# Altium footprint library LED.PcbLib: 32 footprints (part 2 of 2)
Each footprint in its own frame and in the unit in brackets; x right, y up, seen from the top. Pads: shape width x height; smd on the part's side, far side on the other; paste and mask are expansions set on the pad; w line width, h text height; cw(c..) or ccw(c..) is an arc to the next point about the centre after c.
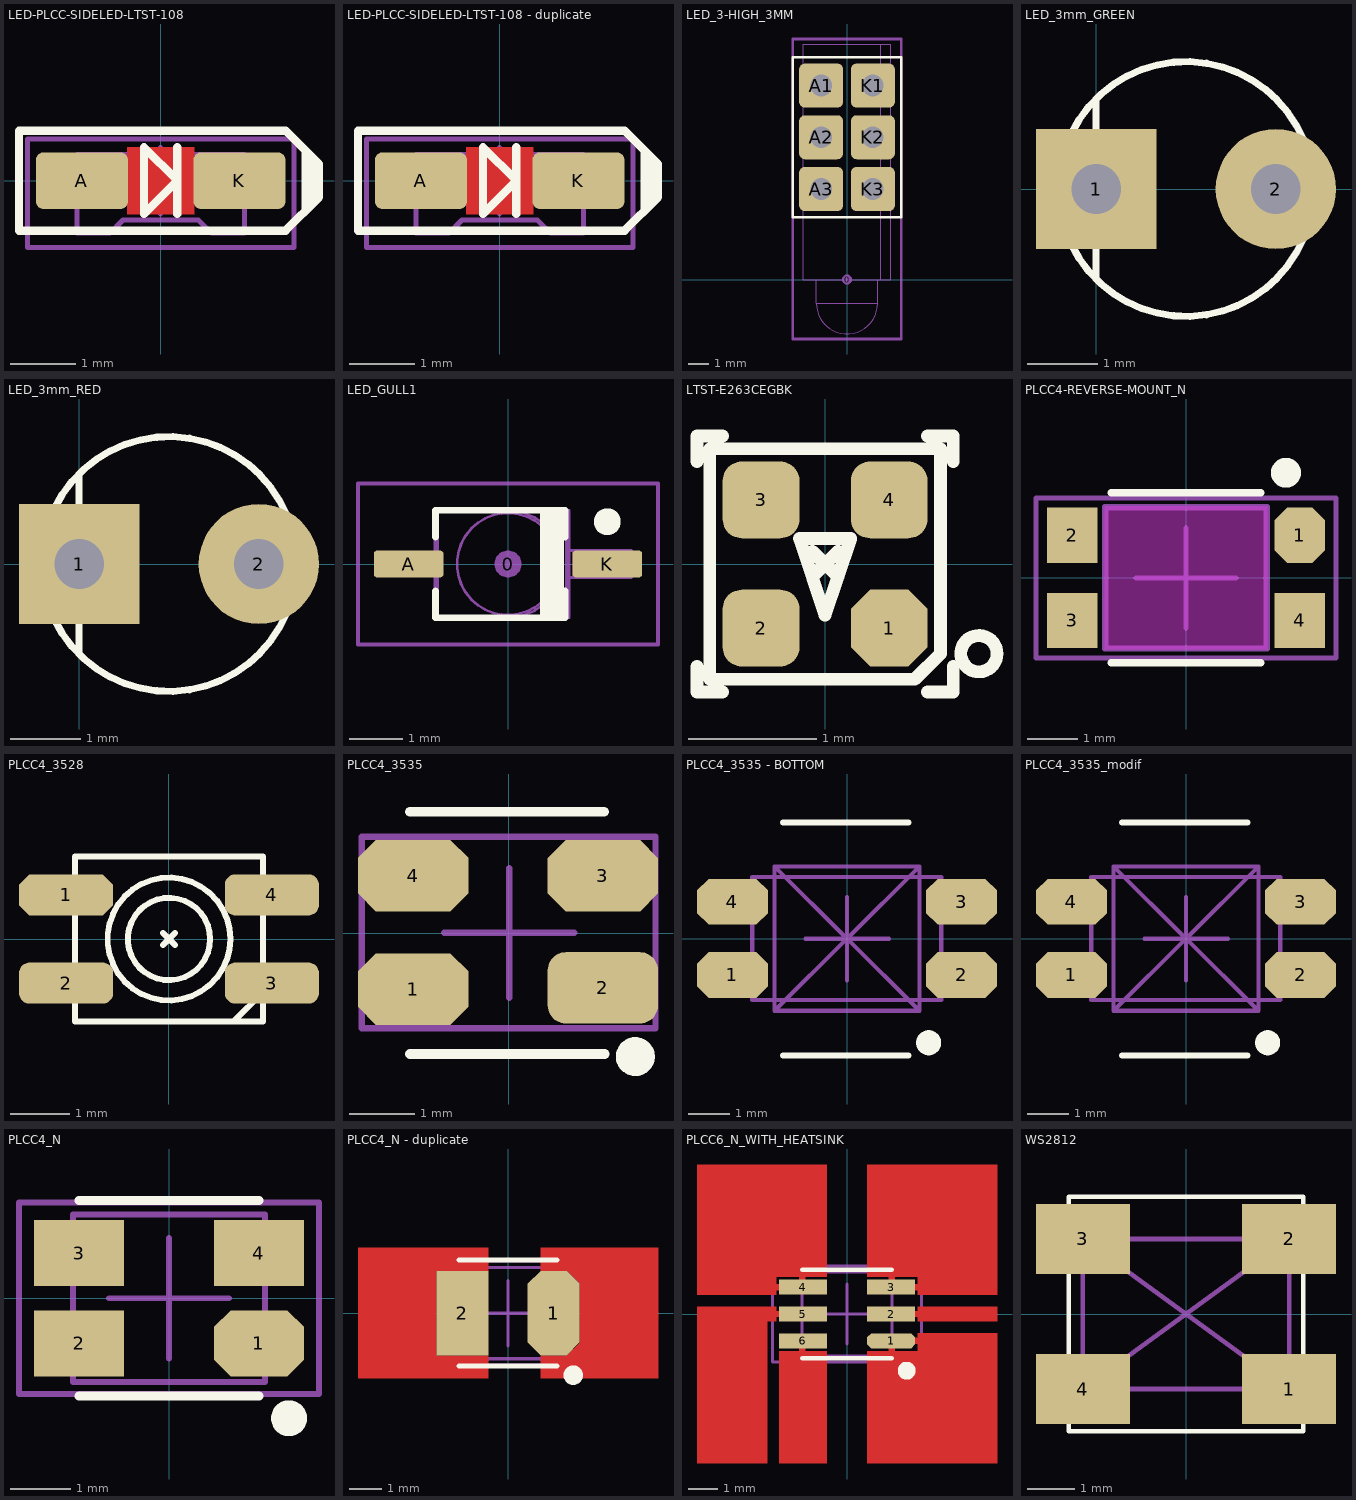
[diagram p1: the footprints below, top view; thin cyan lines are the x and y axes]

## LED-PLCC-SIDELED-LTST-108 [mm] "Lite-On Inc PLCC Side LED"
height 0.8
pads (2):
  rrect25% 1.4x0.86 smd: A(-1.2,0) K(1.2,0)
Top Layer:
  pour cut-out: -0.508,0.508 0.508,0.508 0.508,-0.508 -0.508,-0.508
Top Overlay:
  lines w0.127: 0.254,-0.508 0.254,0.508 ; 2.21,-0.457 2.21,0.457 ; 2.311,-0.356 2.311,0.356 ; -2.159,-0.762 1.905,-0.762 2.413,-0.254 2.413,0.254 1.905,0.762 -2.159,0.762 -2.159,-0.762 ; -0.254,-0.508 -0.254,0.508 0.254,0 -0.254,-0.508
Mechanical 13:
  lines w0.076: -1.275,-0.8 -1.275,0.4 1.275,0.4 1.275,-0.8 0.775,-0.8 0.575,-0.6 -0.575,-0.6 -0.775,-0.8 -1.275,-0.8
Mechanical 15:
  lines w0.076: -0.508,0 0.508,0 ; 0,-0.508 0,0.508 ; -2.032,-1.016 2.032,-1.016 2.032,0.635 -2.032,0.635 -2.032,-1.016
3D body: height 0.15, standoff 0, extent 0.725,-0.3 1.425,0.3
3D body: height 0.15, standoff 0, extent -1.425,-0.3 -0.725,0.3
3D body: height 0.8, standoff 0, extent -1.275,-0.8 1.275,0.4

## LED-PLCC-SIDELED-LTST-108 - duplicate [mm] "Lite-On Inc PLCC Side LED"
height 0.8
pads (2):
  rrect25% 1.4x0.86 smd: A(-1.2,0) K(1.2,0)
Top Layer:
  pour cut-out: -0.508,0.508 0.508,0.508 0.508,-0.508 -0.508,-0.508
Top Overlay:
  lines w0.127: 0.254,-0.508 0.254,0.508 ; 2.21,-0.457 2.21,0.457 ; 2.311,-0.356 2.311,0.356 ; -2.159,-0.762 -2.159,0.762 1.905,0.762 2.413,0.254 2.413,-0.254 1.905,-0.762 -2.159,-0.762 ; -0.254,-0.508 0.254,0 -0.254,0.508 -0.254,-0.508
Mechanical 13:
  lines w0.076: -1.275,-0.8 -0.775,-0.8 -0.575,-0.6 0.575,-0.6 0.775,-0.8 1.275,-0.8 1.275,0.4 -1.275,0.4 -1.275,-0.8
Mechanical 15:
  lines w0.076: -0.508,0 0.508,0 ; 0,-0.508 0,0.508 ; -2.032,-1.016 -2.032,0.635 2.032,0.635 2.032,-1.016 -2.032,-1.016
3D body: height 0.8, standoff 0, extent -1.275,-0.8 1.275,0.4
3D body: height 0.15, standoff 0, extent -1.425,-0.3 -0.725,0.3
3D body: height 0.15, standoff 0, extent 0.725,-0.3 1.425,0.3

## LED_3-HIGH_3MM [mil] "LED Circuit Board Indicator Tri-Level"
height 600
pads (7):
  round 20 on Mech15: 0(0,0)
  rrect25% 85x85 hole 42: A1(-50,375) A2(-50,275) A3(-50,175) K1(50,375) K2(50,275) K3(50,175)
Top Overlay:
  lines w5: -105,120 105,120 105,430 -105,430 -105,120
Mechanical 13:
  lines w1.97: -59.06,0 -59.06,-46.06 ; 59.06,0 59.06,-46.06 ; 65.35,0 65.35,455.12 ; -59.06,-46.06 ccw(c0,-46.06) 59.06,-46.06 ; -59.06,-46.06 59.06,-46.06 ; -85.04,0 85.04,0 85.04,455.12 -85.04,455.12 -85.04,0
Mechanical 15:
  lines w5: -105,-115 105,-115 105,465 -105,465 -105,-115
3D body "LED bar 3-high 3mm.STEP": height 600, standoff -144.88, extent -85.04,-105.11 85.04,455.12

## LED_3mm_GREEN [mm]
pads (2):
  rect 1.7x1.7 hole 0.7: 1(0,0)
  round 1.7 hole 0.7: 2(2.54,0)
Top Overlay:
  circle w0.1: c1.27,0 r1.8
  lines w0.1: 0,-1.27 0,1.27
3D body "User Library-LEDd3G.STEP": height 5.51, standoff -2.49, extent -0.394,-1.654 2.906,1.646

## LED_3mm_RED [mm]
pads (2):
  rect 1.7x1.7 hole 0.7: 1(0,0)
  round 1.7 hole 0.7: 2(2.54,0)
Top Overlay:
  circle w0.1: c1.27,0 r1.8
  lines w0.1: 0,-1.27 0,1.27
3D body "User Library-LEDd3R.STEP": height 5.51, standoff -2.49, extent -0.394,-1.654 2.906,1.646

## LED_GULL1 [mm]
pads (3):
  round 0.508 on Mech15: 0(0,0)
  rrect25% 1.3x0.5 smd: A(-1.85,0) K(1.85,0)
Top Overlay:
  circle w0.4: c1.85,0.788 r0.05
  rectangle: 0.6,-1 1.041,1
  lines w0.127: -1.35,-0.5 -1.35,-1 1.067,-1 1.067,-0.5 ; -1.35,0.5 -1.35,1 1.067,1 1.067,0.5
Mechanical 13:
  circle w0.05: c0,0 r0.95
  lines w0.05: -1.9,-0.2 -1.9,0.2 ; -1.77,-0.2 -1.77,0.2 ; -1.499,-0.2 -1.499,0.2 ; -1.36,-0.2 -2.3,-0.2 -2.3,0.2 -1.36,0.2 ; -1.31,-1 -1.31,1 ; -0.001,-1 ccw(c0,0) 0.001,1 ; 1.09,-1 1.09,1 ; 1.14,-0.25 2.3,-0.25 2.3,0.25 1.14,0.25 ; 1.23,-0.25 1.23,0.25 ; 1.499,-0.25 1.499,0.25 ; 1.77,-0.25 1.77,0.25 ; 1.9,-0.25 1.9,0.25 ; -1.36,-1 1.14,-1 1.14,1 -1.36,1 -1.36,-1
Mechanical 15:
  lines w0.076: -2.794,-1.5 -2.794,1.5 2.794,1.5 2.794,-1.5 -2.794,-1.5
3D body "LED_GullWing.STEP": height 2.76, standoff 0, extent -2.3,-1 2.3,1

## LTST-E263CEGBK [mm]
height 0.65
pads (4):
  oct 0.6x0.6 smd: 1(0.5,-0.5)
  rrect50% 0.6x0.6 smd: 2(-0.5,-0.5) 3(-0.5,0.5) 4(0.5,0.5)
Top Overlay:
  circle w0.1: c1.2,-0.7 r0.141
  lines w0.1: -1,-0.8 -1,-1 -0.8,-1 ; -1,0.8 -1,1 -0.8,1 ; -0.1,-0.1 0.1,0.1 ; -0.1,0.1 0.1,-0.1 ; 0.8,-1 1,-1 1,-0.8 ; 0.8,1 1,1 1,0.8 ; -0.9,-0.9 0.7,-0.9 0.9,-0.7 0.9,0.9 -0.9,0.9 -0.9,-0.9 ; -0.9,-0.9 -0.9,-0.9 ; -0.2,0.2 0,-0.4 0.2,0.2 -0.2,0.2
3D body: height 0.65, standoff 0, extent -0.9,-0.9 0.9,0.9

## PLCC4-REVERSE-MOUNT_N [mm] "PLCC reverse mount, 4-Leads, Body 3.2x2.8mm, 1.7mm pitch, Lead Span 5.4mm, IPC Medium Density"
height 1.1
pads (4):
  oct 1x1.1 smd: 1(2.275,0.85)
  rect 1x1.1 smd: 2(-2.275,0.85) 3(-2.275,-0.85) 4(2.275,-0.85)
Top Overlay:
  circle w0.3: c2,2.1 r0.15
  lines w0.15: -1.5,-1.7 1.5,-1.7 ; -1.5,1.7 1.5,1.7
Keep-Out Layer:
  board cut-out: -1.625,-1.425 -1.625,1.425 1.625,1.425 1.625,-1.425
Keep-Out Layer:
  region: -1.625,-1.425 -1.625,1.425 1.625,1.425 1.625,-1.425
Mechanical 1:
  lines w0.1: -1.625,-1.425 1.625,-1.425 1.625,1.425 -1.625,1.425 -1.625,-1.425
Mechanical 13:
  lines w0.1: -1.6,-1.4 -1.6,1.4 1.6,1.4 1.6,-1.4 -1.6,-1.4
Mechanical 15:
  lines w0.1: -1,0 1,0 ; 0,-1 0,1 ; -3,-1.6 -3,1.6 3,1.6 3,-1.6 -3,-1.6
3D body: height 0.9, standoff 0, extent 1.6,-1.2 2.7,-0.5
3D body: height 1.1, standoff -0.8, extent -1.6,-1.4 1.6,1.4
3D body: height 0.9, standoff 0, extent -2.7,0.5 -1.6,1.2
3D body: height 0.9, standoff 0, extent -2.7,-1.2 -1.6,-0.5
3D body: height 0.9, standoff 0, extent 1.6,0.5 2.7,1.2

## PLCC4_3528 [mm]
height 1.9
pads (4):
  oct 1.6x0.7 smd: 1(-1.75,0.75)
  rrect50% 1.6x0.7 smd: 2(-1.75,-0.75) 3(1.75,-0.75) 4(1.75,0.75)
Top Overlay:
  circle w0.1: c0,0 r0.7
  circle w0.1: c0,0 r1.044
  lines w0.1: -1.65,-0.95 -1.75,-0.95 -1.75,-0.55 -1.65,-0.55 ; -1.65,0.55 -1.75,0.55 -1.75,0.95 -1.65,0.95 ; -0.1,-0.1 0.1,0.1 ; -0.1,0.1 0.1,-0.1 ; 1.1,-1.4 1.6,-0.9 ; 1.65,-0.95 1.75,-0.95 1.75,-0.55 1.65,-0.55 ; 1.65,0.55 1.75,0.55 1.75,0.95 1.65,0.95 ; -1.6,-1.4 1.6,-1.4 1.6,1.4 -1.6,1.4 -1.6,-1.4
3D body "User Library-PLCC4RGBCT-CA LED SMD RGB.step": height 1.9, standoff 0, extent -1.75,-1.4 1.75,1.4
3D body: height 0.25, standoff -14.6, extent 0,0 0,0

## PLCC4_3535 [mm]
pads (4):
  oct 1.7x1.1 smd: 1(-1.476,-0.862) 3(1.448,0.885) 4(-1.476,0.888)
  rrect50% 1.7x1.1 smd: 2(1.448,-0.842)
Top Overlay:
  circle w0.3: c1.949,-1.902 r0.15
  lines w0.15: -1.529,1.872 -0.779,1.872 -0.404,1.872 0.346,1.872 0.721,1.872 1.471,1.872 ; -1.524,-1.863 -0.774,-1.863 0.726,-1.863 1.476,-1.863
Mechanical 15:
  lines w0.1: -0.996,0.004 1.004,0.004 ; 0.004,-0.996 0.004,1.004 ; -2.268,-1.464 2.259,-1.464 2.259,-0.598 2.259,1.088 2.259,1.485 -2.268,1.485 -2.268,-1.464
3D body: height 1.35, standoff -1.35, extent -2.637,6.366 -2.637,6.366
3D body: height 1.35, standoff -1.35, extent -2.668,6.366 -2.668,6.366
3D body: height 0.95, standoff 0, extent -1.751,-1.755 1.751,1.754
3D body: height 0.5, standoff 0, extent -1.751,-1.753 1.751,1.754
3D body: height 1.35, standoff -1.35, extent -0.076,1.418 -0.076,1.418
3D body: height 0.97, standoff 0, extent -1.418,-1.379 1.376,1.415
3D body: height 1.35, standoff -1.35, extent -0.045,1.418 -0.045,1.418
3D body: height 1.35, standoff -1.35, extent 3.703,3.861 3.703,3.861
3D body: height 1.35, standoff -1.35, extent 3.734,3.861 3.734,3.861

## PLCC4_3535 - BOTTOM [mm]
pads (4):
  oct 1.7x1.1 smd: 1(-2.743,-0.864) 2(2.743,-0.864) 3(2.743,0.889) 4(-2.743,0.889)
Top Overlay:
  circle w0.3: c1.956,-2.489 r0.15
  lines w0.15: -1.529,2.787 -0.779,2.787 -0.404,2.787 0.346,2.787 0.721,2.787 1.471,2.787 ; -1.524,-2.794 -0.774,-2.794 0.726,-2.794 1.476,-2.794
Mechanical 13:
  lines w0.1: -1.733,-1.723 1.739,1.733 ; -1.733,-1.723 1.739,-1.723 ; -1.733,-1.723 -1.733,1.733 ; -1.733,1.733 1.739,-1.723 ; -1.733,1.733 1.739,1.733 ; 1.739,-1.723 1.739,1.733
Mechanical 15:
  lines w0.1: -0.996,0.004 1.004,0.004 ; 0.004,-0.996 0.004,1.004 ; -2.268,-1.464 -2.268,1.485 2.259,1.485 2.259,1.088 2.259,-0.598 2.259,-1.464 -2.268,-1.464
3D body: height 1.35, standoff -1.35, extent -0.045,1.418 -0.045,1.418
3D body: height 0, standoff -0.97, extent -1.418,-1.379 1.376,1.415
3D body: height 1.35, standoff -1.35, extent -0.076,1.418 -0.076,1.418
3D body: height 0, standoff -0.5, extent -1.751,-1.753 1.751,1.754
3D body: height 0, standoff -0.95, extent -1.751,-1.755 1.751,1.754
3D body: height 1.35, standoff -1.35, extent -2.668,6.366 -2.668,6.366
3D body: height 1.35, standoff -1.35, extent -2.637,6.366 -2.637,6.366
3D body: height 1.35, standoff -1.35, extent 3.734,3.861 3.734,3.861
3D body: height 1.35, standoff -1.35, extent 3.703,3.861 3.703,3.861

## PLCC4_3535_modif [mm]
pads (4):
  oct 1.7x1.1 smd: 1(-2.743,-0.864) 2(2.743,-0.864) 3(2.743,0.889) 4(-2.743,0.889)
Top Overlay:
  circle w0.3: c1.956,-2.489 r0.15
  lines w0.15: -1.529,2.787 -0.779,2.787 -0.404,2.787 0.346,2.787 0.721,2.787 1.471,2.787 ; -1.524,-2.794 -0.774,-2.794 0.726,-2.794 1.476,-2.794
Mechanical 13:
  lines w0.1: -1.733,-1.723 1.739,1.733 ; -1.733,-1.723 1.739,-1.723 ; -1.733,-1.723 -1.733,1.733 ; -1.733,1.733 1.739,-1.723 ; -1.733,1.733 1.739,1.733 ; 1.739,-1.723 1.739,1.733
Mechanical 15:
  lines w0.1: -0.996,0.004 1.004,0.004 ; 0.004,-0.996 0.004,1.004 ; -2.268,-1.464 -2.268,1.485 2.259,1.485 2.259,1.088 2.259,-0.598 2.259,-1.464 -2.268,-1.464
3D body: height 1.35, standoff -1.35, extent -0.045,1.418 -0.045,1.418
3D body: height 0, standoff -0.97, extent -1.418,-1.379 1.376,1.415
3D body: height 1.35, standoff -1.35, extent -0.076,1.418 -0.076,1.418
3D body: height 0, standoff -0.5, extent -1.751,-1.753 1.751,1.754
3D body: height 0, standoff -0.95, extent -1.751,-1.755 1.751,1.754
3D body: height 1.35, standoff -1.35, extent -2.668,6.366 -2.668,6.366
3D body: height 1.35, standoff -1.35, extent -2.637,6.366 -2.637,6.366
3D body: height 1.35, standoff -1.35, extent 3.734,3.861 3.734,3.861
3D body: height 1.35, standoff -1.35, extent 3.703,3.861 3.703,3.861

## PLCC4_N [mm] "PLCC, 4-Leads, Body 3.2x2.8x1.9mm, Pitch 1.7mm, Lead Span 3.4mm, IPC Medium Density"
height 1.9
pads (4):
  oct 1.5x1.1 smd: 1(1.5,-0.75)
  rect 1.5x1.1 smd: 2(-1.5,-0.75) 3(-1.5,0.75) 4(1.5,0.75)
Top Overlay:
  circle w0.3: c2,-2 r0.15
  lines w0.15: -1.5,-1.625 1.5,-1.625 ; -1.5,1.625 1.5,1.625
Mechanical 13:
  lines w0.1: -1.6,-1.4 -1.6,1.4 1.6,1.4 1.6,-1.4 -1.6,-1.4
Mechanical 15:
  lines w0.1: -1,0 1,0 ; 0,-1 0,1 ; -2.5,-1.6 -2.5,1.6 2.5,1.6 2.5,-1.6 -2.5,-1.6
3D body "ASMB-MTB0-0A3A2.step": height 1.9, standoff 0, extent -1.75,-1.4 1.75,1.4

## PLCC4_N - duplicate [mm] "PLCC, 2-Leads, Body 3x2.8mm, Lead Span 3.5mm, with heatsink pad extensions"
height 1.85
pads (2):
  oct 1.6x2.6 smd: 1(1.4,0)
  rect 1.6x2.6 smd: 2(-1.4,0)
Top Layer:
  region: -4.6,-2 -4.6,2 -0.6,2 -0.6,1.3 -2.2,1.3 -2.2,-1.3 -0.6,-1.3 -0.6,-2
  region: 4.6,2 4.6,-2 1,-2 1,-1.3 1.8,-1.3 2.2,-0.9 2.2,0.9 1.8,1.3 1,1.3 1,2
Top Overlay:
  circle w0.3: c2,-1.9 r0.15
  lines w0.15: -1.5,-1.625 1.5,-1.625 ; -1.5,1.625 1.5,1.625
Mechanical 13:
  lines w0.1: -1.6,-1.4 -1.6,1.4 1.6,1.4 1.6,-1.4 -1.6,-1.4
Mechanical 15:
  lines w0.1: -1,0 1,0 ; 0,-1 0,1 ; -2.4,-1.6 2.4,-1.6 2.4,1.6 -2.4,1.6 -2.4,-1.6
3D body: height 1.85, standoff 0, extent -1.6,-1.4 1.6,1.4

## PLCC6_N_WITH_HEATSINK [mm] "PLCC, 6-Leads, Body 3x2.8x1.9mm, Pitch 0.9mm, Lead Span 3.4mm, IPC Medium Density, With Heatsink Pad Extensions"
height 2
pads (6):
  oct 1.6x0.5 smd: 1(1.475,-0.9)
  rect 1.6x0.5 smd: 2(1.475,0) 3(1.475,0.9) 4(-1.475,0.9) 5(-1.475,0) 6(-1.475,-0.9)
Top Layer:
  region: 2.25,-0.1 2.25,0.1 2.375,0.1 2.375,0.25 5.025,0.25 5.025,-0.25 2.375,-0.25 2.375,-0.1
  region: -5.025,-5 -5.025,0.25 -2.375,0.25 -2.375,0.1 -2.25,0.1 -2.25,-0.1 -2.375,-0.1 -2.375,-0.25 -2.675,-0.25 -2.675,-5
  region: 0.675,-5 0.675,-1.25 1.4,-1.25 1.4,-1.125 1.6,-1.125 1.6,-1.25 2.375,-1.25 2.375,-1 2.25,-1 2.25,-0.8 2.375,-0.8 2.375,-0.65 5.025,-0.65 5.025,-5
  region: -0.675,5 -0.675,1.25 -1.4,1.25 -1.4,1.125 -1.6,1.125 -1.6,1.25 -2.375,1.25 -2.375,1 -2.25,1 -2.25,0.8 -2.375,0.8 -2.375,0.65 -5.025,0.65 -5.025,5
  region: 0.675,5 0.675,1.25 1.4,1.25 1.4,1.125 1.6,1.125 1.6,1.25 2.375,1.25 2.375,1 2.25,1 2.25,0.8 2.375,0.8 2.375,0.65 5.025,0.65 5.025,5
  region: -2.275,-5 -2.275,-1.25 -1.6,-1.25 -1.6,-1.125 -1.4,-1.125 -1.4,-1.25 -0.675,-1.25 -0.675,-5
Top Overlay:
  circle w0.3: c2,-1.9 r0.15
  lines w0.15: -1.5,-1.475 1.5,-1.475 ; -1.5,1.475 1.5,1.475
Mechanical 13:
  lines w0.1: -1.5,-1.4 -1.5,1.4 1.5,1.4 1.5,-1.4 -1.5,-1.4
Mechanical 15:
  lines w0.1: -1,0 1,0 ; 0,-1 0,1 ; -2.5,-1.6 -2.5,1.6 2.5,1.6 2.5,-1.6 -2.5,-1.6
3D body: height 1.9, standoff 0, extent -1.5,-1.4 1.5,1.4

## WS2812 [mm]
pads (4):
  rect 2x1.5 smd: 1(2.2,-1.6) 2(2.2,1.6) 3(-2.2,1.6) 4(-2.2,-1.6)
Top Overlay:
  lines w0.1: -2.502,-2.502 -2.502,2.502 2.502,2.502 2.502,-2.502 -2.502,-2.502
Mechanical 15:
  lines w0.1: -2.2,-1.6 2.2,1.6 ; -2.2,-1.6 -2.2,1.6 ; -2.2,-1.6 2.2,-1.6 ; -2.2,1.6 2.2,-1.6 ; -2.2,1.6 2.2,1.6 ; -2.2,1.6 2.2,1.6 ; 2.2,-1.6 2.2,1.6
3D body "User Library-WS2812B.step": height 1.5, standoff -0.2, extent -2.7,-2.5 2.7,2.5